# Altium footprint library PCB1.PcbLib: 74 footprints (part 2 of 5)
Each footprint in its own frame and in the unit in brackets; x right, y up, seen from the top. Pads: shape width x height; smd on the part's side, far side on the other; paste and mask are expansions set on the pad; w line width, h text height; cw(c..) or ccw(c..) is an arc to the next point about the centre after c.
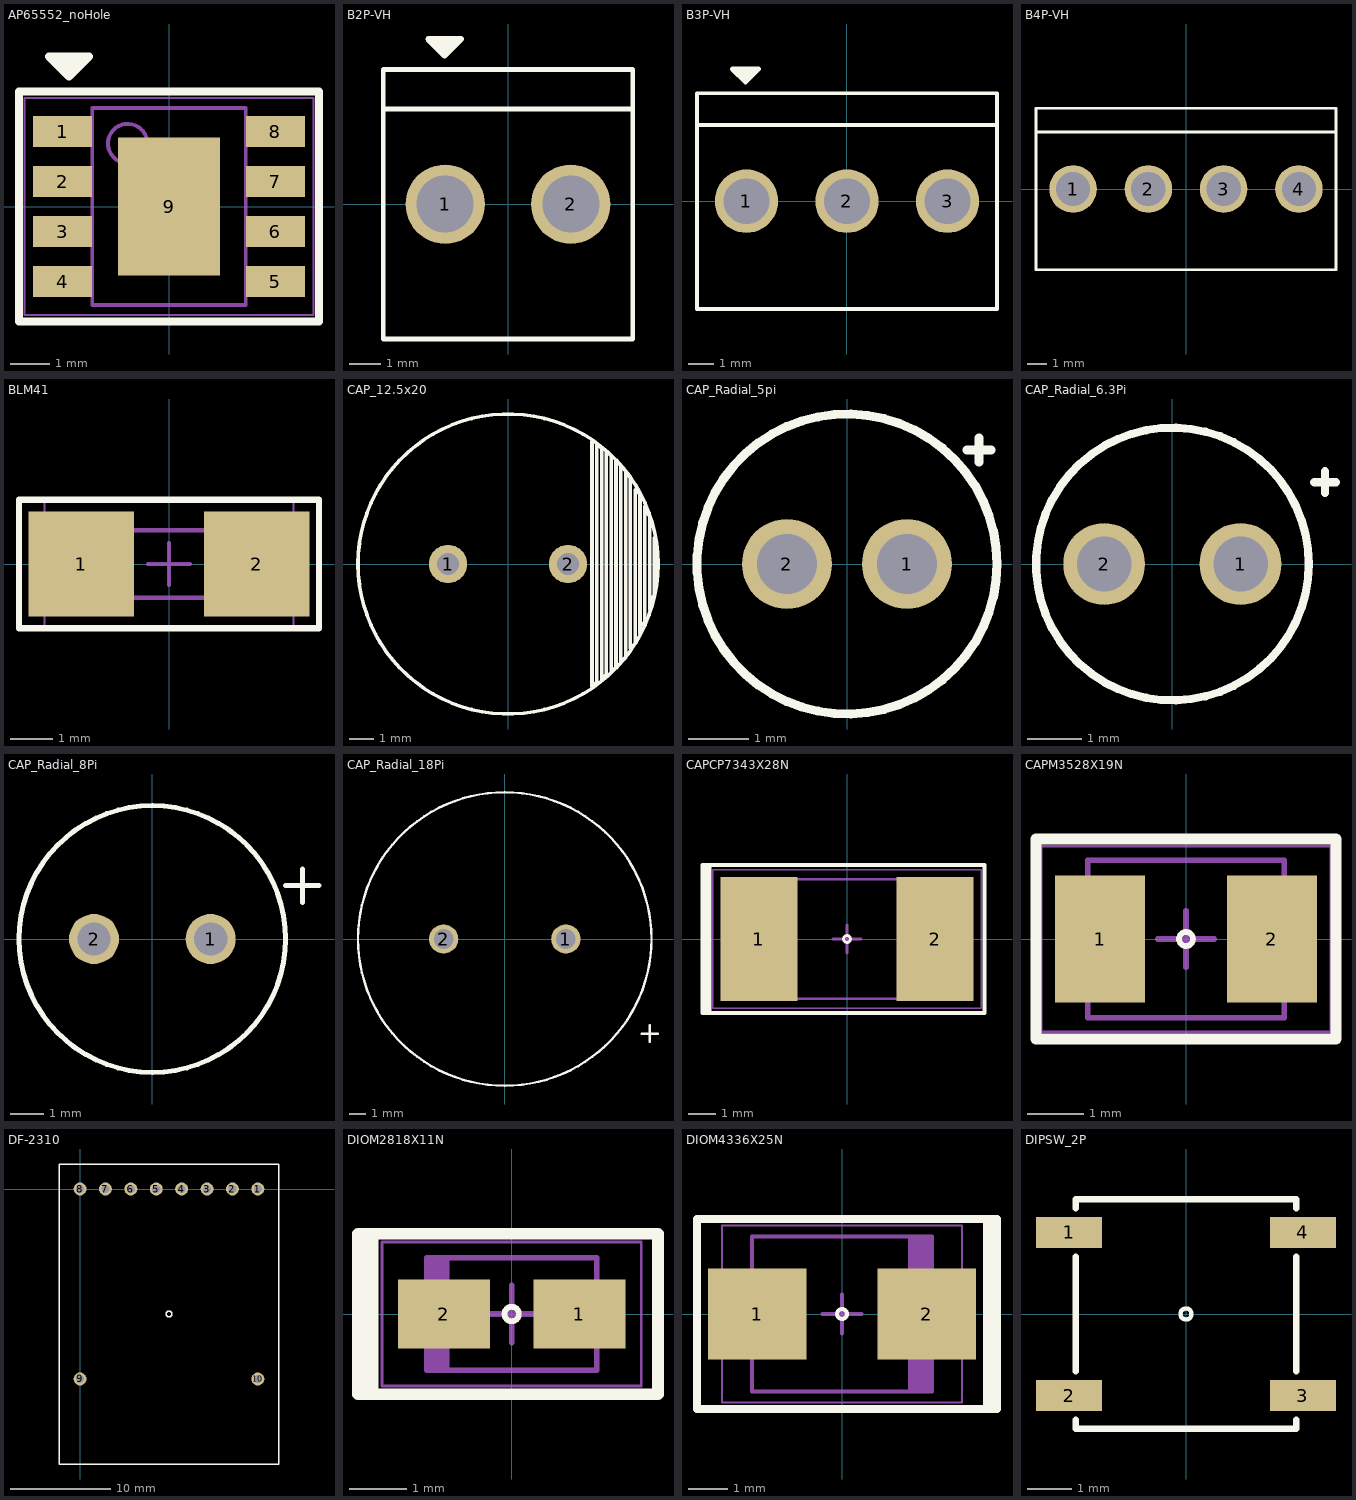
[diagram p1: the footprints below, top view; thin cyan lines are the x and y axes]

## AP65552_noHole [mm]
pads (9):
  rect 1.5x0.8 smd: 1(-2.7,1.905) 2(-2.7,0.635) 3(-2.7,-0.635) 4(-2.7,-1.905) 5(2.7,-1.905) 6(2.7,-0.635) 7(2.7,0.635) 8(2.7,1.905)
  rect 2.6x3.5 smd: 9(0,0)
Top Overlay:
  lines w0.2: -2.54,3.302 -2.54,3.81 -2.54,3.556 ; -2.54,3.302 -3.048,3.81 -2.032,3.81 -2.54,3.302 ; -2.54,3.556 -2.286,3.81 -2.794,3.81 -2.54,3.556 ; -3.81,-2.921 3.81,-2.921 3.81,2.921 -3.81,2.921 -3.81,-2.921
Mechanical 13:
  circle w0.1: c-1.05,1.6 r0.5
  lines w0.1: -1.95,-2.5 -1.95,2.5 1.95,2.5 1.95,-2.5 -1.95,-2.5
Mechanical 15:
  lines w0.05: -3.675,-2.75 -3.675,2.75 3.675,2.75 3.675,-2.75 -3.675,-2.75
  lines w0.1: -0.5,0 0.5,0 ; 0,-0.5 0,0.5
3D body "SOIC127P600X150_HS-9N.step": height 1.5, standoff 0, extent -3,-2.5 3,2.5

## B2P-VH [mm]
pads (2):
  round 2.5 hole 1.8 paste-0.05 mask+0.1: 1(-1.98,0) 2(1.98,0)
Top Overlay:
  lines w0.15: -3.93,3 3.93,3 ; -3.93,-4.25 3.93,-4.25 3.93,4.25 -3.93,4.25 -3.93,-4.25
  lines w0.2: -2,4.7 -2,5.208 -2,4.954 ; -2,4.7 -2.508,5.208 -1.492,5.208 -2,4.7 ; -2,4.954 -1.746,5.208 -2.254,5.208 -2,4.954

## B3P-VH [mm]
pads (3):
  round 2.5 hole 1.8 paste-0.05 mask+0.1: 1(-3.96,0) 2(0,0) 3(3.96,0)
Top Overlay:
  lines w0.15: -5.91,3 5.91,3 ; -5.91,-4.25 -5.91,4.25 5.91,4.25 5.91,-4.25 -5.91,-4.25
  lines w0.2: -4,4.7 -3.492,5.208 -4.508,5.208 -4,4.7 ; -4,4.7 -4,5.208 -4,4.954 ; -4,4.954 -4.254,5.208 -3.746,5.208 -4,4.954

## B4P-VH [mm]
pads (4):
  round 2.5 hole 1.8 paste-0.05 mask+0.1: 1(-5.94,0) 2(-1.98,0) 3(1.98,0) 4(5.94,0)
Top Overlay:
  lines w0.15: -7.89,3 7.89,3 ; -7.89,-4.25 7.89,-4.25 7.89,4.25 -7.89,4.25 -7.89,-4.25

## BLM41 [mm] "Ferrite Bead, 2-Leads, Body 4.50x1.60mm, IPC Medium Density"
height 1.6
pads (2):
  rect 2.5x2.5 smd: 1(-2.08,0) 2(2.08,0)
Top Overlay:
  lines w0.15: -3.556,-1.524 3.556,-1.524 3.556,1.524 -3.556,1.524 -3.556,-1.524
Mechanical 13:
  lines w0.1: -2.25,-0.8 -2.25,0.8 2.25,0.8 2.25,-0.8 -2.25,-0.8
Mechanical 15:
  lines w0.05: -2.95,-1.5 -2.95,1.5 2.95,1.5 2.95,-1.5 -2.95,-1.5
  lines w0.1: -0.5,0 0.5,0 ; 0,-0.5 0,0.5
3D body "BLM41.step": height 1.6, standoff 0, extent -2.25,-0.8 2.25,0.8

## CAP_12.5x20 [mm] "nichicon"
height 20
pads (2):
  round 1.6 hole 0.9 paste-0.05 mask+0.102: 1(-2.5,0) 2(2.5,0)
Top Overlay:
  circle w0.15: c0,0 r6.25
  lines w0.15: 3.5,5.1 3.5,-5.1 3.7,-4.9 3.7,5 3.9,4.8 3.9,-4.8 4.1,-4.6 4.1,4.7 4.3,4.5 4.3,-4.5 4.5,-4.3 4.5,4.3 4.7,4.1 4.7,-4.1 4.9,-3.9 4.9,3.8 5.1,3.6 5.1,-3.5 5.3,-3.3 5.3,3.1 5.5,2.9 5.5,-2.9 5.5,-2.6 5.7,-2.4 5.7,2.4 5.8,2.3 5.8,2.1 5.9,2 5.9,-1.9 5.9,-1.5 6.1,-1.3 6.1,1.1

## CAP_Radial_5pi [mm] "5x11, 2.0 pitch, d = 0.5+"
pads (2):
  round 1.5 hole 1 paste-0.05 mask+0.1: 1(1,0) 2(-1,0)
Top Overlay:
  circle w0.15: c0,0 r2.5
  lines w0.15: 2,1.9 2.4,1.9 ; 2.2,1.7 2.2,2.1

## CAP_Radial_6.3Pi [mm] "6.3x11, 2.5 pitch, d = 0.5+"
pads (2):
  round 1.5 hole 1 paste-0.05 mask+0.1: 1(1.25,0) 2(-1.25,0)
Top Overlay:
  circle w0.15: c0,0 r2.5
  lines w0.15: 2.6,1.5 3,1.5 ; 2.8,1.3 2.8,1.7

## CAP_Radial_8Pi [mm] "8x9, 3.5 pitch, d = 0.6+"
pads (2):
  round 1.5 hole 1 paste-0.05 mask+0.1: 1(1.75,0) 2(-1.75,0)
Top Overlay:
  circle w0.15: c0,0 r4
  lines w0.15: 4,1.6 5,1.6 ; 4.5,1.1 4.5,2.1

## CAP_Radial_18Pi [mm] "18x20, 7.5 pitch, d = 0.8+"
pads (2):
  round 1.8 hole 1.2 paste-0.05 mask+0.1: 1(3.75,0) 2(-3.75,0)
Top Overlay:
  circle w0.15: c0,0 r9
  lines w0.15: 8.4,-5.8 9.4,-5.8 ; 8.9,-6.3 8.9,-5.3

## CAPCP7343X28N [mm] "Chip Capacitor, 2-Leads, Body 7.30x4.30mm, IPC Medium Density"
height 2.8
pads (2):
  rect 2.77x4.45 smd: 1(-3.175,0) 2(3.175,0)
Top Overlay:
  circle w0.1: c0,0 r0.125
  lines w0.15: -4.953,2.667 -4.953,2.54 -4.953,-2.667 ; -4.953,-2.667 -5.207,-2.667 -5.207,2.667 -4.826,2.667 ; -4.953,-2.667 -5.08,-2.54 -5.08,2.667 -4.826,2.667 ; -4.953,-2.667 4.953,-2.667 4.953,2.667 -4.826,2.667
Mechanical 13:
  lines w0.1: -3.65,-2.15 -3.65,2.15 3.65,2.15 3.65,-2.15 -3.65,-2.15
Mechanical 15:
  lines w0.05: -4.826,-2.5 -4.826,2.5 4.826,2.5 4.826,-2.5 -4.826,-2.5
  lines w0.1: -0.5,0 0.5,0 ; 0,-0.5 0,0.5
3D body "new_CAPCP7343X28N.step": height 2.8, standoff 0, extent -3.65,-2.15 3.65,2.15

## CAPM3528X19N [mm] "Molded Capacitor, 2-Leads, Body 3.50x2.80mm, IPC Medium Density"
height 1.9
pads (2):
  rect 1.6x2.25 smd: 1(-1.525,0) 2(1.525,0)
Top Overlay:
  circle w0.1: c0,0 r0.125
  lines w0.2: -2.667,-1.778 2.667,-1.778 2.667,1.778 -2.667,1.778 -2.667,-1.778
Mechanical 13:
  lines w0.1: -1.75,-1.4 -1.75,1.4 1.75,1.4 1.75,-1.4 -1.75,-1.4
Mechanical 15:
  lines w0.05: -2.575,-1.65 -2.575,1.65 2.575,1.65 2.575,-1.65 -2.575,-1.65
  lines w0.1: -0.5,0 0.5,0 ; 0,-0.5 0,0.5
3D body "CAPM3528X19N.step": height 1.9, standoff 0, extent -1.97,-1.4 1.97,1.4

## DF-2310 [mm]
pads (10):
  round 1.3 hole 0.8 paste-0.05 mask+0.1: 1(17.78,0) 2(15.24,0) 3(12.7,0) 4(10.16,0) 5(7.62,0) 6(5.08,0) 7(2.54,0) 8(0,0) 9(0,-19) 10(17.78,-19)
Top Overlay:
  circle w0.15: c8.9,-12.5 r0.283
  lines w0.15: -2.1,-27.5 -2.1,2.5 19.89,2.5 19.89,-27.5 -2.1,-27.5

## DIOM2818X11N [mm] "Molded Diode, 2-Leads, Body 2.80x1.80mm, IPC Medium Density"
height 1.08
pads (2):
  rect 1.6x1.2 smd: 1(1.175,0) 2(-1.175,0)
Top Overlay:
  circle w0.1: c0,0 r0.125
  lines w0.2: -2.413,-1.397 2.54,-1.397 2.54,1.397 -2.413,1.397 ; -2.413,-1.397 -2.413,1.397 ; -2.413,-1.397 -2.54,-1.27 -2.54,1.27 -2.413,1.397 ; -2.413,-1.397 -2.667,-1.397 -2.667,1.397 -2.413,1.397
Mechanical 13:
  rectangle: -1.475,-0.975 -1.078,0.975
  lines w0.1: -1.475,-0.975 -1.475,0.975 1.475,0.975 1.475,-0.975 -1.475,-0.975
Mechanical 15:
  lines w0.05: -2.25,-1.25 -2.25,1.25 2.25,1.25 2.25,-1.25 -2.25,-1.25
  lines w0.1: -0.5,0 0.5,0 ; 0,-0.5 0,0.5
3D body "DIOM2818X11N.step": height 1.08, standoff 0, extent -1.695,-0.975 1.695,0.975

## DIOM4336X25N [mm] "Molded Diode, 2-Leads, Body 4.31x3.62mm, IPC Medium Density"
height 2.5
pads (2):
  rect 2.5x2.3 smd: 1(-2.15,0) 2(2.15,0)
Top Overlay:
  circle w0.1: c0,0 r0.125
  lines w0.2: 3.683,-2.413 3.937,-2.413 3.937,2.413 3.683,2.413 ; 3.683,-2.413 3.81,-2.286 3.81,2.286 3.683,2.413 ; 3.683,-2.413 -3.683,-2.413 -3.683,1.55 -3.683,2.413 3.683,2.413 ; 3.683,-2.413 3.683,1.55 3.683,2.413
Mechanical 13:
  rectangle: 1.67,-1.97 2.285,1.97
  lines w0.1: -2.285,-1.97 -2.285,1.97 2.285,1.97 2.285,-1.97 -2.285,-1.97
Mechanical 15:
  lines w0.05: -3.05,-2.25 -3.05,2.25 3.05,2.25 3.05,-2.25 -3.05,-2.25
  lines w0.1: -0.5,0 0.5,0 ; 0,-0.5 0,0.5
3D body "DIOM4336X25N.step": height 2.5, standoff 0, extent -2.505,-1.97 2.505,1.97

## DIPSW_2P [mm] "2.54 pitch"
pads (4):
  rect 1.5x0.7 smd paste-0.05 mask+0.1: 1(-2.65,1.85) 2(-2.65,-1.85) 3(2.65,-1.85) 4(2.65,1.85)
Top Overlay:
  circle w0.1: c0,0 r0.125
  lines w0.15: -2.5,-2.4 -2.5,-2.6 2.5,-2.6 2.5,-2.4 ; -2.5,-1.3 -2.5,1.3 ; -2.5,2.4 -2.5,2.6 2.5,2.6 2.5,2.4 ; 2.5,-1.3 2.5,1.3